# Altium schematic symbol library crystals.SchLib: 4 symbols
Pins are listed as number, name and electrical type; pins without a type are passive.

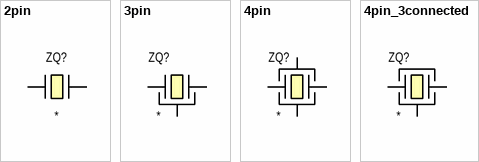
[diagram p0: symbols 2pin to 4pin_3connected]

## 2pin
designator ZQ?
pins: 1, 2

## 3pin
designator ZQ?
pins: 1, 2, 3

## 4pin
designator ZQ?
pins: 1, 2, 3, 4

## 4pin_3connected
designator ZQ?
pins: 1, 2, 3